# Altium schematic symbol library 自用.SchLib: 234 symbols (part 3 of 3)
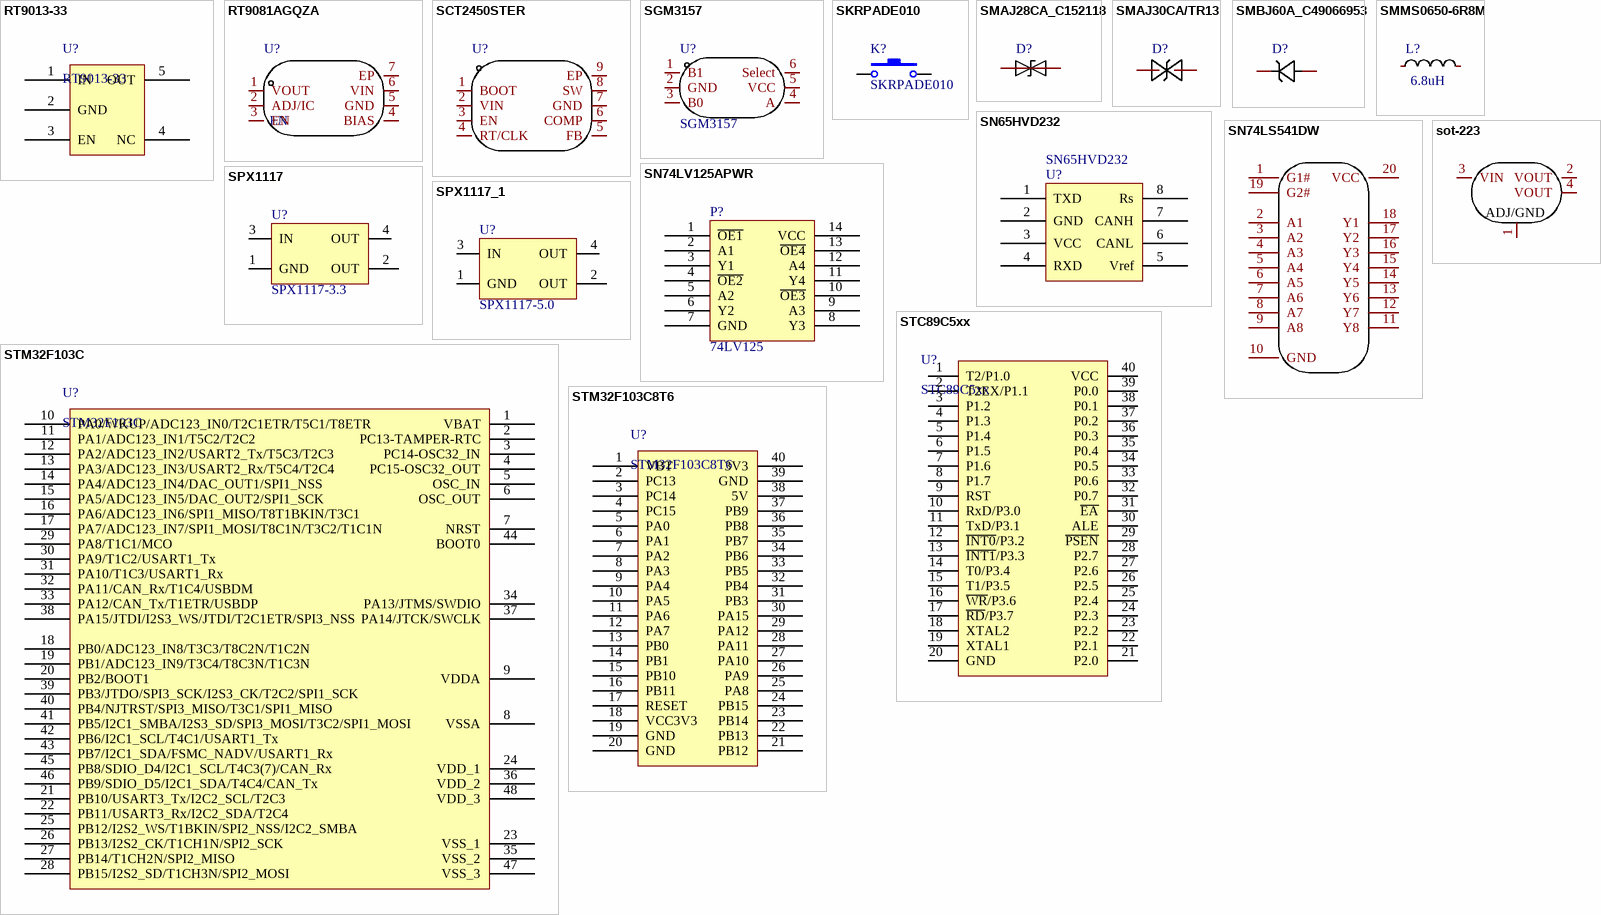
[diagram p10: symbols RT9013-33 to STM32F103C8T6]

## STM32F103C
designator U?
STM32单片机48引脚
footprint LQFP-48_M (Thin QFP, 48-Leads, Body 7x7mm, Pitch 0.5mm, IPC Low Density)
pins: 1 VBAT, 2 PC13-TAMPER-RTC, 3 PC14-OSC32_IN, 4 PC15-OSC32_OUT, 5 OSC_IN, 6 OSC_OUT, 7 NRST, 8 VSSA, 9 VDDA, 10 PA0/WKUP/ADC123_IN0/T2C1ETR/T5C1/T8ETR, 11 PA1/ADC123_IN1/T5C2/T2C2, 12 PA2/ADC123_IN2/USART2_Tx/T5C3/T2C3, 13 PA3/ADC123_IN3/USART2_Rx/T5C4/T2C4, 14 PA4/ADC123_IN4/DAC_OUT1/SPI1_NSS, 15 PA5/ADC123_IN5/DAC_OUT2/SPI1_SCK, 16 PA6/ADC123_IN6/SPI1_MISO/T8T1BKIN/T3C1, 17 PA7/ADC123_IN7/SPI1_MOSI/T8C1N/T3C2/T1C1N, 18 PB0/ADC123_IN8/T3C3/T8C2N/T1C2N, 19 PB1/ADC123_IN9/T3C4/T8C3N/T1C3N, 20 PB2/BOOT1, 21 PB10/USART3_Tx/I2C2_SCL/T2C3, 22 PB11/USART3_Rx/I2C2_SDA/T2C4, 23 VSS_1, 24 VDD_1, 25 PB12/I2S2_WS/T1BKIN/SPI2_NSS/I2C2_SMBA, 26 PB13/I2S2_CK/T1CH1N/SPI2_SCK, 27 PB14/T1CH2N/SPI2_MISO, 28 PB15/I2S2_SD/T1CH3N/SPI2_MOSI, 29 PA8/T1C1/MCO, 30 PA9/T1C2/USART1_Tx, 31 PA10/T1C3/USART1_Rx, 32 PA11/CAN_Rx/T1C4/USBDM, 33 PA12/CAN_Tx/T1ETR/USBDP, 34 PA13/JTMS/SWDIO, 35 VSS_2, 36 VDD_2, 37 PA14/JTCK/SWCLK, 38 PA15/JTDI/I2S3_WS/JTDI/T2C1ETR/SPI3_NSS, 39 PB3/JTDO/SPI3_SCK/I2S3_CK/T2C2/SPI1_SCK, 40 PB4/NJTRST/SPI3_MISO/T3C1/SPI1_MISO, 41 PB5/I2C1_SMBA/I2S3_SD/SPI3_MOSI/T3C2/SPI1_MOSI, 42 PB6/I2C1_SCL/T4C1/USART1_Tx, 43 PB7/I2C1_SDA/FSMC_NADV/USART1_Rx, 44 BOOT0, 45 PB8/SDIO_D4/I2C1_SCL/T4C3(7)/CAN_Rx, 46 PB9/SDIO_D5/I2C1_SDA/T4C4/CAN_Tx, 47 VSS_3, 48 VDD_3

## STM32F103C8T6
designator U?
购买的最小系统板
footprint stm32f103最小系统座
pins: 1 VBT, 2 PC13, 3 PC14, 4 PC15, 5 PA0, 6 PA1, 7 PA2, 8 PA3, 9 PA4, 10 PA5, 11 PA6, 12 PA7, 13 PB0, 14 PB1, 15 PB10, 16 PB11, 17 RESET, 18 VCC3V3, 19 GND, 20 GND, 21 PB12, 22 PB13, 23 PB14, 24 PB15, 25 PA8, 26 PA9, 27 PA10, 28 PA11, 29 PA12, 30 PA15, 31 PB3, 32 PB4, 33 PB5, 34 PB6, 35 PB7, 36 PB8, 37 PB9, 38 5V, 39 GND, 40 3V3

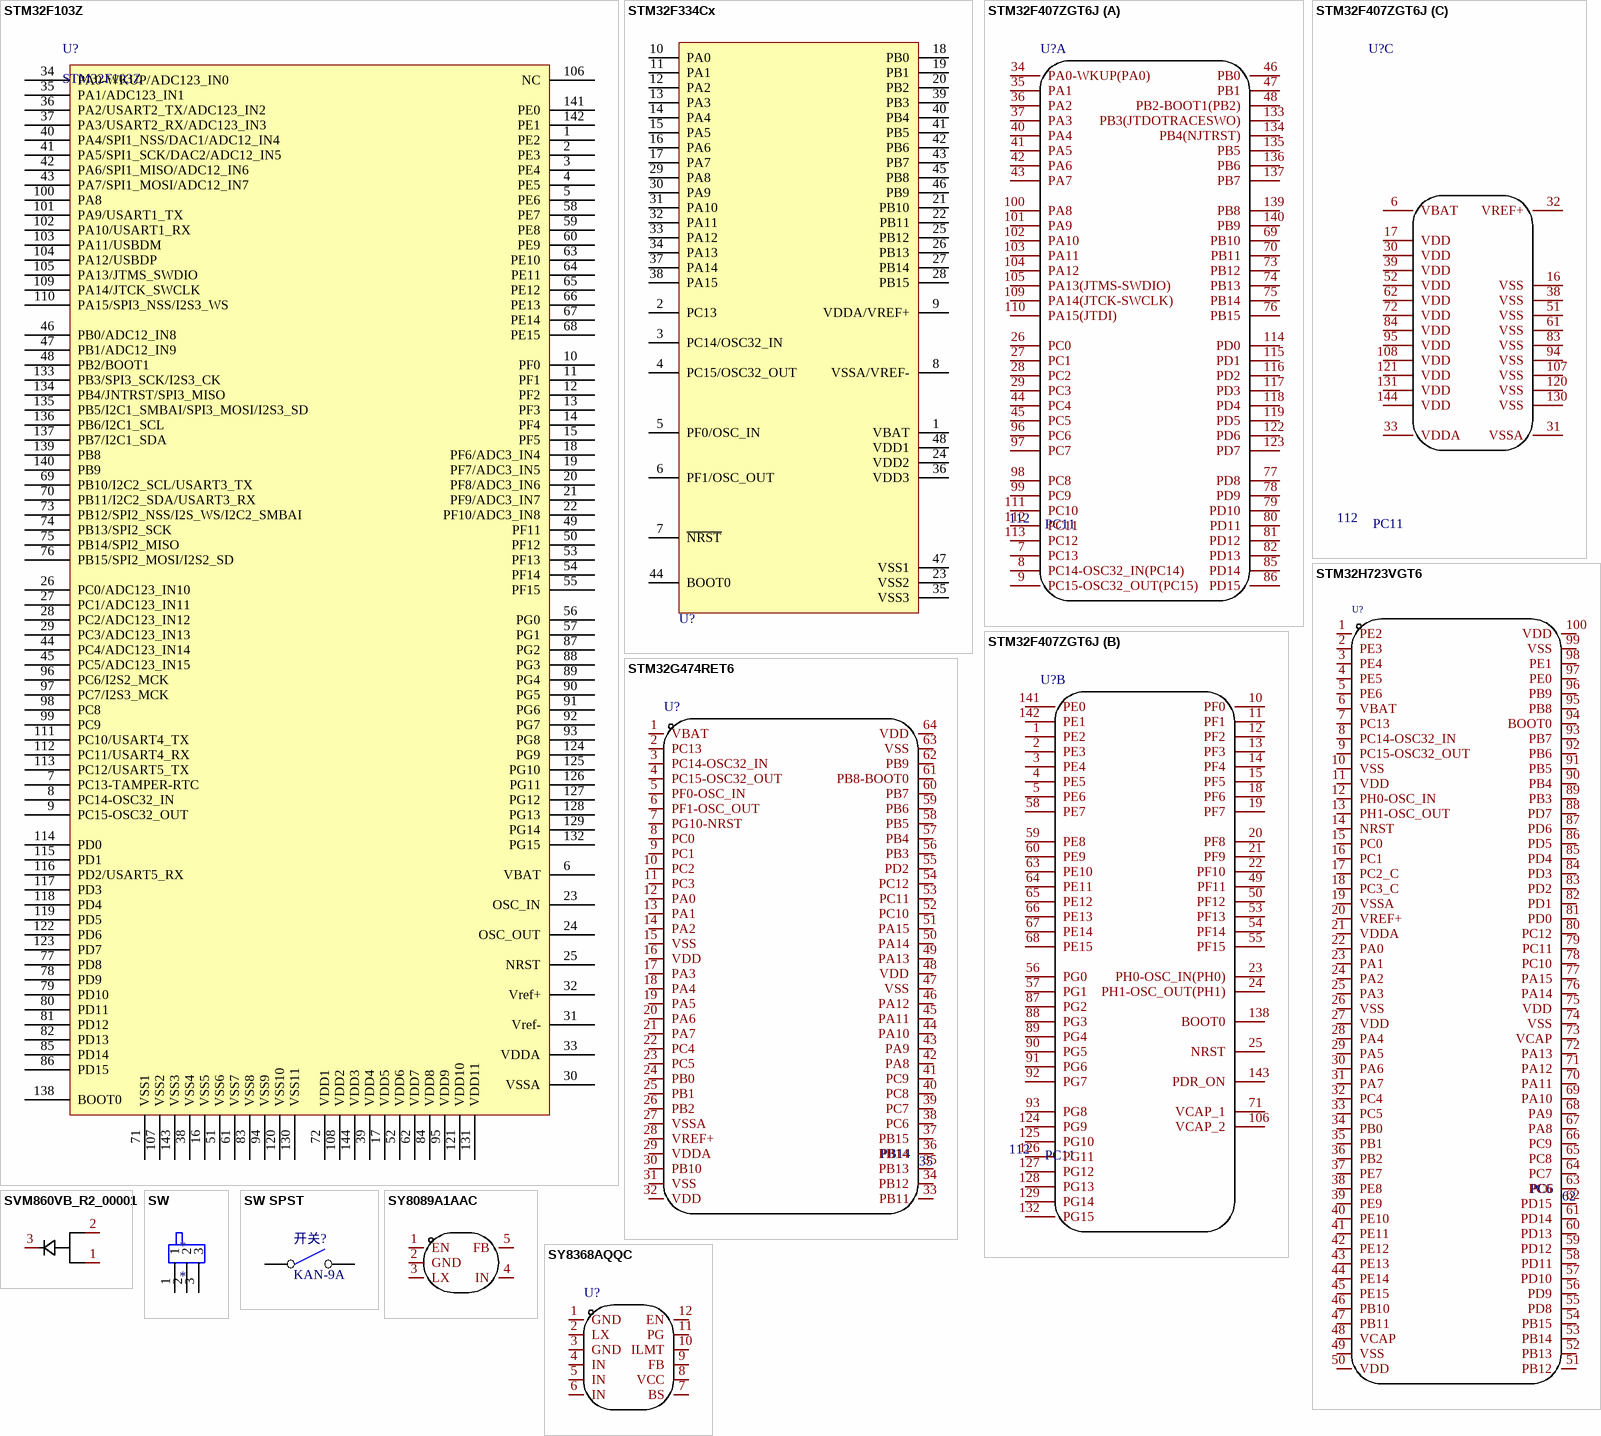
[diagram p6: symbols STM32F103Z to SY8368AQQC]

## STM32F103Z
designator U?
STM32单片机144引脚
footprint TQFP144_N (Thin QFP, 144-Leads, Body 20x20mm, Pitch 0.5mm, IPC Medium Density)
pins: 1 PE2, 2 PE3, 3 PE4, 4 PE5, 5 PE6, 6 VBAT, 7 PC13-TAMPER-RTC, 8 PC14-OSC32_IN, 9 PC15-OSC32_OUT, 10 PF0, 11 PF1, 12 PF2, 13 PF3, 14 PF4, 15 PF5, 16 VSS5, 17 VDD5, 18 PF6/ADC3_IN4, 19 PF7/ADC3_IN5, 20 PF8/ADC3_IN6, 21 PF9/ADC3_IN7, 22 PF10/ADC3_IN8, 23 OSC_IN, 24 OSC_OUT, 25 NRST, 26 PC0/ADC123_IN10, 27 PC1/ADC123_IN11, 28 PC2/ADC123_IN12, 29 PC3/ADC123_IN13, 30 VSSA, 31 Vref-, 32 Vref+, 33 VDDA, 34 PA0-WKUP/ADC123_IN0, 35 PA1/ADC123_IN1, 36 PA2/USART2_TX/ADC123_IN2, 37 PA3/USART2_RX/ADC123_IN3, 38 VSS4, 39 VDD4, 40 PA4/SPI1_NSS/DAC1/ADC12_IN4, 41 PA5/SPI1_SCK/DAC2/ADC12_IN5, 42 PA6/SPI1_MISO/ADC12_IN6, 43 PA7/SPI1_MOSI/ADC12_IN7, 44 PC4/ADC123_IN14, 45 PC5/ADC123_IN15, 46 PB0/ADC12_IN8, 47 PB1/ADC12_IN9, 48 PB2/BOOT1, 49 PF11, 50 PF12, 51 VSS6, 52 VDD6, 53 PF13, 54 PF14, 55 PF15, 56 PG0, 57 PG1, 58 PE7, 59 PE8, 60 PE9, 61 VSS7, 62 VDD7, 63 PE10, 64 PE11, 65 PE12, 66 PE13, 67 PE14, 68 PE15, 69 PB10/I2C2_SCL/USART3_TX, 70 PB11/I2C2_SDA/USART3_RX, 71 VSS1, 72 VDD1, 73 PB12/SPI2_NSS/I2S_WS/I2C2_SMBAI, 74 PB13/SPI2_SCK, 75 PB14/SPI2_MISO, 76 PB15/SPI2_MOSI/I2S2_SD, 77 PD8, 78 PD9, 79 PD10, 80 PD11, 81 PD12, 82 PD13, 83 VSS8, 84 VDD8, 85 PD14, 86 PD15, 87 PG2, 88 PG3, 89 PG4, 90 PG5, 91 PG6, 92 PG7, 93 PG8, 94 VSS9, 95 VDD9, 96 PC6/I2S2_MCK, 97 PC7/I2S3_MCK, 98 PC8, 99 PC9, 100 PA8, 101 PA9/USART1_TX, 102 PA10/USART1_RX, 103 PA11/USBDM, 104 PA12/USBDP, 105 PA13/JTMS_SWDIO, 106 NC, 107 VSS2, 108 VDD2, 109 PA14/JTCK_SWCLK, 110 PA15/SPI3_NSS/I2S3_WS, 111 PC10/USART4_TX, 112 PC11/USART4_RX, 113 PC12/USART5_TX, 114 PD0, 115 PD1, 116 PD2/USART5_RX, 117 PD3, 118 PD4, 119 PD5, 120 VSS10, 121 VDD10, 122 PD6, 123 PD7, 124 PG9, 125 PG10, 126 PG11, 127 PG12, 128 PG13, 129 PG14, 130 VSS11, 131 VDD11, 132 PG15, 133 PB3/SPI3_SCK/I2S3_CK, 134 PB4/JNTRST/SPI3_MISO, 135 PB5/I2C1_SMBAI/SPI3_MOSI/I2S3_SD, 136 PB6/I2C1_SCL, 137 PB7/I2C1_SDA, 138 BOOT0, 139 PB8, 140 PB9, 141 PE0, 142 PE1, 143 VSS3, 144 VDD3

## STM32F334Cx
designator U?, comment STM32F334CxT6  (value not drawn)
footprint LQFP_48 (Thin QFP, 48-Leads, Body 7x7mm, Pitch 0.5mm, IPC Medium Density)
pins: 1 VBAT, 2 PC13, 3 PC14/OSC32_IN, 4 PC15/OSC32_OUT, 5 PF0/OSC_IN, 6 PF1/OSC_OUT, 7 ~{NRST}, 8 VSSA/VREF-, 9 VDDA/VREF+, 10 PA0, 11 PA1, 12 PA2, 13 PA3, 14 PA4, 15 PA5, 16 PA6, 17 PA7, 18 PB0, 19 PB1, 20 PB2, 21 PB10, 22 PB11, 23 VSS2, 24 VDD2, 25 PB12, 26 PB13, 27 PB14, 28 PB15, 29 PA8, 30 PA9, 31 PA10, 32 PA11, 33 PA12, 34 PA13, 35 VSS3, 36 VDD3, 37 PA14, 38 PA15, 39 PB3, 40 PB4, 41 PB5, 42 PB6, 43 PB7, 44 BOOT0, 45 PB8, 46 PB9, 47 VSS1, 48 VDD1

## STM32F407ZGT6J
designator U?  NAME: PC11  NUMBER: 112  (hidden comment: STM32F407ZGT6J)
Manufacturer: ST(意法半导体); Add into BOM: yes; Symbol: STM32F407ZGT6J; Device: STM32F407ZGT6J; LCSC Part Name: 带DSP和FPU的高性能基础系列ARM Cortex-M4 MCU，具有1 MB Flash、168 MHz CPU、ART加速器、以太网和FSMC; Supplier Part: C2970023; Manufacturer Part: STM32F407ZGT6J; Supplier Footprint: LQFP-144(20x20); JLCPCB Part Class: Extended Part; Datasheet: https://atta.szlcsc.com/upload/public/pdf/source/20201130/C919362_39400D478C258148B3DF984CE4A4041A.pdf; Supplier: LCSC; Convert to PCB: yes
footprint LQFP-144_L20.0-W20.0-P0.50-LS22.0-BL
3D model LQFP-144_L20.0-W20.0-P0.50-LS22.0-BL
part A pins: 7 PC13, 8 PC14-OSC32_IN(PC14), 9 PC15-OSC32_OUT(PC15), 26 PC0, 27 PC1, 28 PC2, 29 PC3, 34 PA0-WKUP(PA0), 35 PA1, 36 PA2, 37 PA3, 40 PA4, 41 PA5, 42 PA6, 43 PA7, 44 PC4, 45 PC5, 46 PB0, 47 PB1, 48 PB2-BOOT1(PB2), 69 PB10, 70 PB11, 73 PB12, 74 PB13, 75 PB14, 76 PB15, 77 PD8, 78 PD9, 79 PD10, 80 PD11, 81 PD12, 82 PD13, 85 PD14, 86 PD15, 96 PC6, 97 PC7, 98 PC8, 99 PC9, 100 PA8, 101 PA9, 102 PA10, 103 PA11, 104 PA12, 105 PA13(JTMS-SWDIO), 109 PA14(JTCK-SWCLK), 110 PA15(JTDI), 111 PC10, 112 PC11, 113 PC12, 114 PD0, 115 PD1, 116 PD2, 117 PD3, 118 PD4, 119 PD5, 122 PD6, 123 PD7, 133 PB3(JTDOTRACESWO), 134 PB4(NJTRST), 135 PB5, 136 PB6, 137 PB7, 139 PB8, 140 PB9
part B pins: 1 PE2, 2 PE3, 3 PE4, 4 PE5, 5 PE6, 10 PF0, 11 PF1, 12 PF2, 13 PF3, 14 PF4, 15 PF5, 18 PF6, 19 PF7, 20 PF8, 21 PF9, 22 PF10, 23 PH0-OSC_IN(PH0), 24 PH1-OSC_OUT(PH1), 25 NRST, 49 PF11, 50 PF12, 53 PF13, 54 PF14, 55 PF15, 56 PG0, 57 PG1, 58 PE7, 59 PE8, 60 PE9, 63 PE10, 64 PE11, 65 PE12, 66 PE13, 67 PE14, 68 PE15, 71 VCAP_1, 87 PG2, 88 PG3, 89 PG4, 90 PG5, 91 PG6, 92 PG7, 93 PG8, 106 VCAP_2, 124 PG9, 125 PG10, 126 PG11, 127 PG12, 128 PG13, 129 PG14, 132 PG15, 138 BOOT0, 141 PE0, 142 PE1, 143 PDR_ON
part C pins: 6 VBAT, 16 VSS, 17 VDD, 30 VDD, 31 VSSA, 32 VREF+, 33 VDDA, 38 VSS, 39 VDD, 51 VSS, 52 VDD, 61 VSS, 62 VDD, 72 VDD, 83 VSS, 84 VDD, 94 VSS, 95 VDD, 107 VSS, 108 VDD, 120 VSS, 121 VDD, 130 VSS, 131 VDD, 144 VDD

## STM32G474RET6
designator U?  NAME: PB14  NUMBER: 35  (hidden comment: STM32G474RET6)
CPU内核:ARM-M4;CPU最大主频:170MHz;应用领域:-;; Manufacturer: ST(意法半导体); Add into BOM: yes; CPU Core: ARM-M4; CPU Maximum Speed: 170MHz; Program Storage Size: 512KB; Program Memory Type: FLASH; Number of I/O: 52; ADC (Bit): 12bit; Voltage - Supply: 1.71V~3.6V; Symbol: STM32G474RET6; Device: STM32G474RET6; LCSC Part Name: 带DSP和FPU的170MHz主流ARM Cortex-M4 MCU，具有512 KB Flash存储器、数学加速器、高分辨率定时器和高模拟电平集成; Supplier Part: C521608; Manufacturer Part: STM32G474RET6; Supplier Footprint: LQFP-64(10x10); JLCPCB Part Class: Extended Part; Datasheet: https://item.szlcsc.com/datasheet/STM32G474RET6/538858.html; Supplier: LCSC; Convert to PCB: yes; DAC (Bit): 12bit; Applications: -
footprint LQFP-64_L10.0-W10.0-P0.50-LS12.0-BL
3D model LQFP-64_L10.0-W10.0-H1.4-LS12.0-P0.50
pins: 1 VBAT, 2 PC13, 3 PC14-OSC32_IN, 4 PC15-OSC32_OUT, 5 PF0-OSC_IN, 6 PF1-OSC_OUT, 7 PG10-NRST, 8 PC0, 9 PC1, 10 PC2, 11 PC3, 12 PA0, 13 PA1, 14 PA2, 15 VSS, 16 VDD, 17 PA3, 18 PA4, 19 PA5, 20 PA6, 21 PA7, 22 PC4, 23 PC5, 24 PB0, 25 PB1, 26 PB2, 27 VSSA, 28 VREF+, 29 VDDA, 30 PB10, 31 VSS, 32 VDD, 33 PB11, 34 PB12, 35 PB13, 36 PB14, 37 PB15, 38 PC6, 39 PC7, 40 PC8, 41 PC9, 42 PA8, 43 PA9, 44 PA10, 45 PA11, 46 PA12, 47 VSS, 48 VDD, 49 PA13, 50 PA14, 51 PA15, 52 PC10, 53 PC11, 54 PC12, 55 PD2, 56 PB3, 57 PB4, 58 PB5, 59 PB6, 60 PB7, 61 PB8-BOOT0, 62 PB9, 63 VSS, 64 VDD

## STM32H723VGT6
designator U?  NAME: PC6  NUMBER: 62  (hidden comment: STM32H723VGT6)
应用领域:-;CPU内核:ARM-M系列;CPU最大主频:550MHz;工作电压范围:1.71V~3.6V;程序存储容量:1MB;程序存储器类型:FLASH;RAM总容量:564KB;GPIO端口数量:80;; Manufacturer: ST(意法半导体); Add into BOM: yes; CPU Maximum Speed: 550MHz; Program Storage Size: 1MB; Program Memory Type: FLASH; RAM Size: 564KB; GPIO Ports Number: 80; ADC (Bit): 16bit; DAC (Bit): 12bit; Universal Serial Bus: 有; Peripheral/Function: DMA；LCD/LED驱动; Symbol: STM32H723VGT6; Device: STM32H723VGT6; LCSC Part Name: STM32H723VGT6; Supplier Part: C730142; Manufacturer Part: STM32H723VGT6; Supplier Footprint: LQFP-100(14x14); Datasheet: https://atta.szlcsc.com/upload/public/pdf/source/20200902/C730141_32325B298F902737689CA9A88D6BD2F2.pdf; Supplier: LCSC; Convert to PCB: yes; Application Area: -; CPU Core: ARM-M系列; Operating Voltage Range: 1.71V~3.6V; EEPROM: -; PWM (Bit): -; 8Bit Timer: -; 16Bit Timer: -; 32Bit Timer: -; CAN: -; UART/USART: -; I2C: -; I2S: -; SPI: -; Internal Comparator: -; communication protocol: -; Watchdog: -; Real-Time Clock: -; Infrared Data Association: -; Low-Voltage Detect: -; CCP Capture/Compare: -; LCD Module: -; LED Module: -; Secure Digital Input and Output: 有; Direct Memory Access: -; Internal Oscillator: 有; Operating Temperature Range: -40~+85
footprint LQFP-100_L14.0-W14.0-P0.50-LS16.0-BL
3D model LQFP-100_L14.0-W14.0-H1.4-LS16.0-P0.50
pins: 1 PE2, 2 PE3, 3 PE4, 4 PE5, 5 PE6, 6 VBAT, 7 PC13, 8 PC14-OSC32_IN, 9 PC15-OSC32_OUT, 10 VSS, 11 VDD, 12 PH0-OSC_IN, 13 PH1-OSC_OUT, 14 NRST, 15 PC0, 16 PC1, 17 PC2_C, 18 PC3_C, 19 VSSA, 20 VREF+, 21 VDDA, 22 PA0, 23 PA1, 24 PA2, 25 PA3, 26 VSS, 27 VDD, 28 PA4, 29 PA5, 30 PA6, 31 PA7, 32 PC4, 33 PC5, 34 PB0, 35 PB1, 36 PB2, 37 PE7, 38 PE8, 39 PE9, 40 PE10, 41 PE11, 42 PE12, 43 PE13, 44 PE14, 45 PE15, 46 PB10, 47 PB11, 48 VCAP, 49 VSS, 50 VDD, 51 PB12, 52 PB13, 53 PB14, 54 PB15, 55 PD8, 56 PD9, 57 PD10, 58 PD11, 59 PD12, 60 PD13, 61 PD14, 62 PD15, 63 PC6, 64 PC7, 65 PC8, 66 PC9, 67 PA8, 68 PA9, 69 PA10, 70 PA11, 71 PA12, 72 PA13, 73 VCAP, 74 VSS, 75 VDD, 76 PA14, 77 PA15, 78 PC10, 79 PC11, 80 PC12, 81 PD0, 82 PD1, 83 PD2, 84 PD3, 85 PD4, 86 PD5, 87 PD6, 88 PD7, 89 PB3, 90 PB4, 91 PB5, 92 PB6, 93 PB7, 94 BOOT0, 95 PB8, 96 PB9, 97 PE0, 98 PE1, 99 VSS, 100 VDD

## SVM860VB_R2_00001
designator D??  (value not drawn)
Manufacturer: PANJIT(强茂); Add into BOM: yes; Reverse Voltage (Vr): 60V; Average Rectified Current (Io): 8A; Forward Voltage (Vf@If): 550mV@8A; Name: SVM860VB_R2_00001; Symbol: SVM860VB_R2_00001; Device: SVM860VB_R2_00001; LCSC Part Name: 60V 8A 550mV@8A; Supplier Part: C391734; Manufacturer Part: SVM860VB_R2_00001; Supplier Footprint: TO-277B; JLCPCB Part Class: Extended Part; Datasheet: https://atta.szlcsc.com/upload/public/pdf/source/20191009/16E1EB373CB74545A8BE07B5C7EDAC13_980FE1D79AA0762FF32B7C1F834FEE71.pdf; Supplier: LCSC; Convert to PCB: yes
3D model TO-277B_L6.1-W4.3-LS7.0-BR
pins: 1, 2, 3

## SW
designator *
footprint SW-TH_MK-12D18-G040
pins: 1, 2, 3

## SW SPST
designator 开关?, comment KAN-9A
footprint LQ_KAN-9A
pins: 1 COMMON, 2 NO

## SY8089A1AAC
designator U??  (value not drawn)
Manufacturer: 矽力杰silergy; Add into BOM: yes; Name: SY8089A1AAC; Symbol: SY8089A1AAC; Device: SY8089A1AAC; LCSC Part Name: SY8089A1AAC; Supplier Part: C479074; Manufacturer Part: SY8089A1AAC; Supplier Footprint: SOT-23-5; JLCPCB Part Class: Extended Part; Datasheet: https://atta.szlcsc.com/upload/public/pdf/source/20200117/C479074_09E605B8BDE11DB5A08573B7E6429A0D.pdf; Supplier: LCSC; Convert to PCB: yes
3D model SOT-23-5_L2.9-W1.6-H1.1-LS2.8-P0.95
footprint SOT-23-5_L2.9-W1.6-P0.95-LS2.8-BL
pins: 1 EN, 2 GND, 3 LX, 4 IN, 5 FB

## SY8368AQQC
designator U?  (value not drawn)
Manufacturer: silergy(矽力杰); Add into BOM: yes; Symbol: SY8368AQQC; Device: SY8368AQQC; LCSC Part Name: SY8368AQQC; Supplier Part: C207642; Manufacturer Part: SY8368AQQC; Supplier Footprint: QFN-12(3x3); JLCPCB Part Class: Extended Part; Datasheet: https://atta.szlcsc.com/upload/public/pdf/source/20230216/4232C0095630C5F8359F22493EDE685C.pdf; Supplier: LCSC; Convert to PCB: yes
footprint QFN-12_L3.0-W3.0-P0.45-TL-EP
3D model QFN-12_L3.0-W3.0-P0.45-TL-EP
pins: 1 GND, 2 LX, 3 GND, 4 IN, 5 IN, 6 IN, 7 BS, 8 VCC, 9 FB, 10 ILMT, 11 PG, 12 EN

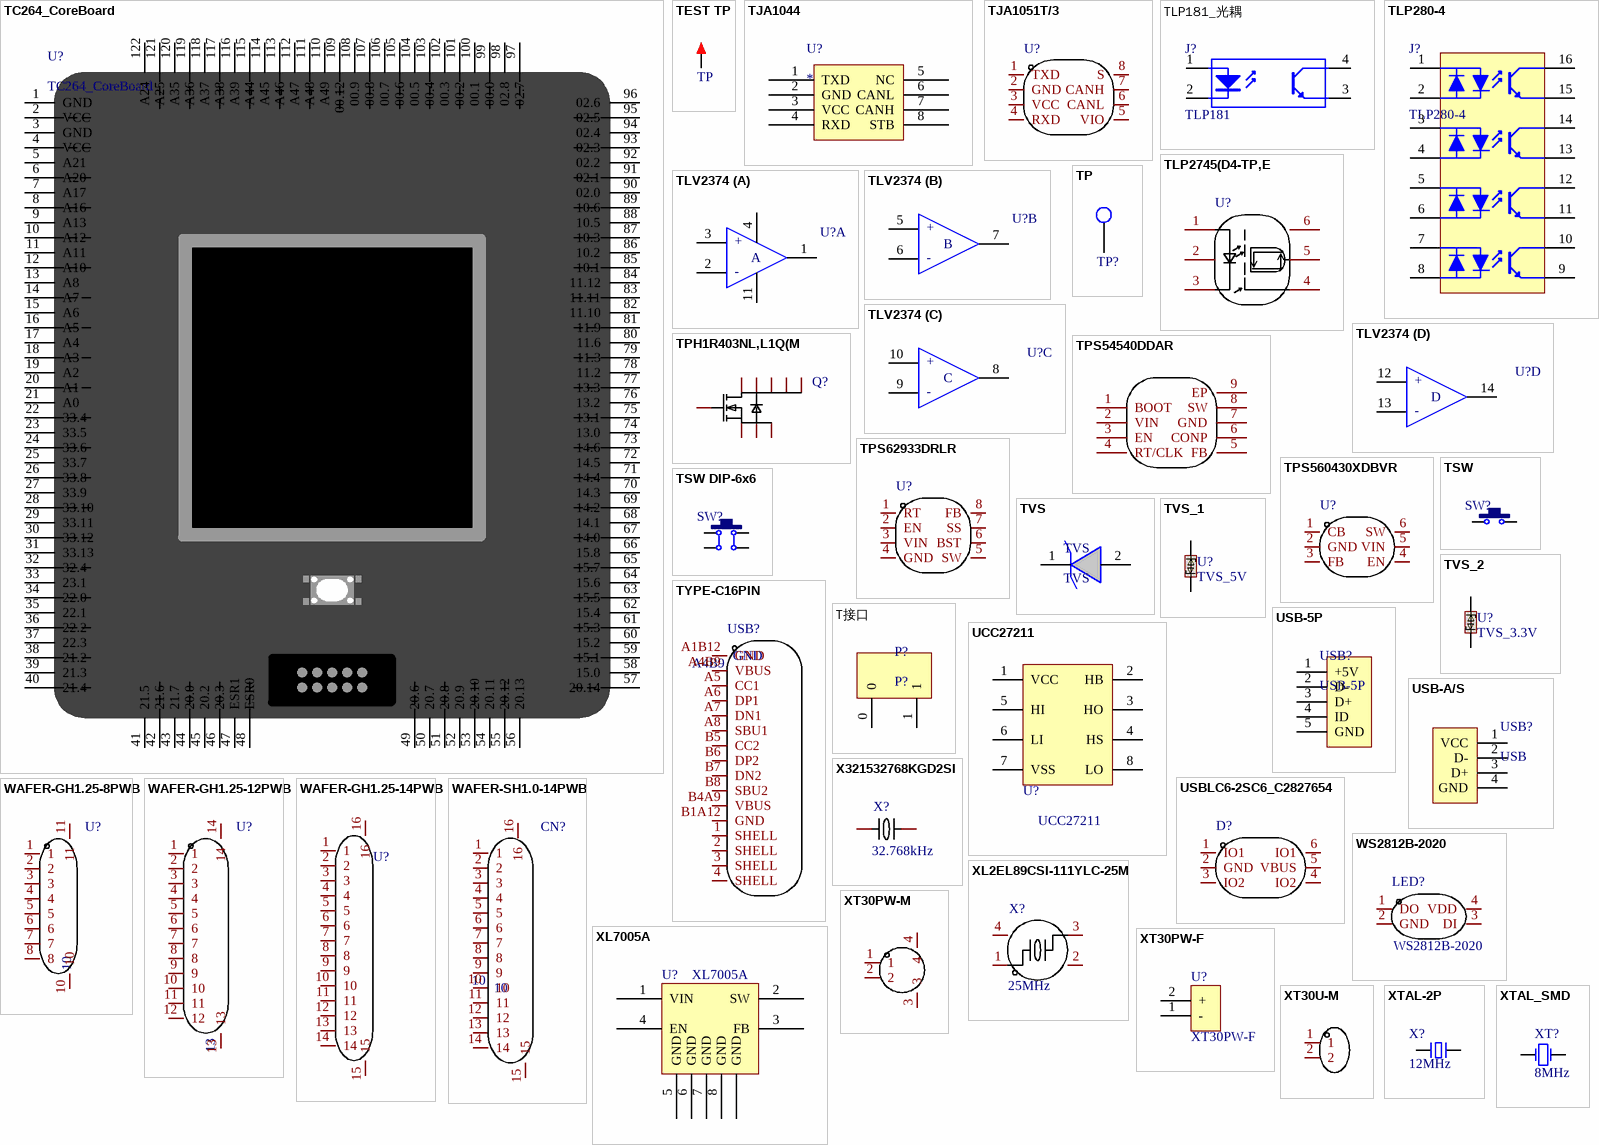
[diagram p7: symbols TC264_CoreBoard to XTAL_SMD]

## TC264_CoreBoard
designator U?
逐飞科技TC264核心板
footprint TC264_CoreBoard (逐飞科技TC264核心板)
pins: 1 GND, 2 VCC, 3 GND, 4 VCC, 5 A21, 6 A20, 7 A17, 8 A16, 9 A13, 10 A12, 11 A11, 12 A10, 13 A8, 14 A7, 15 A6, 16 A5, 17 A4, 18 A3, 19 A2, 20 A1, 21 A0, 22 33.4, 23 33.5, 24 33.6, 25 33.7, 26 33.8, 27 33.9, 28 33.10, 29 33.11, 30 33.12, 31 33.13, 32 32.4, 33 23.1, 34 22.0, 35 22.1, 36 22.2, 37 22.3, 38 21.2, 39 21.3, 40 21.4, 41 21.5, 42 21.6, 43 21.7, 44 20.0, 45 20.2, 46 20.3, 47 ESR1, 48 ESR0, 49 20.6, 50 20.7, 51 20.8, 52 20.9, 53 20.10, 54 20.11, 55 20.12, 56 20.13, 57 20.14, 58 15.0, 59 15.1, 60 15.2, 61 15.3, 62 15.4, 63 15.5, 64 15.6, 65 15.7, 66 15.8, 67 14.0, 68 14.1, 69 14.2, 70 14.3, 71 14.4, 72 14.5, 73 14.6, 74 13.0, 75 13.1, 76 13.2, 77 13.3, 78 11.2, 79 11.3, 80 11.6, 81 11.9, 82 11.10, 83 11.11, 84 11.12, 85 10.1, 86 10.2, 87 10.3, 88 10.5, 89 10.6, 90 02.0, 91 02.1, 92 02.2, 93 02.3, 94 02.4, 95 02.5, 96 02.6, 97 02.7, 98 02.8, 99 00.0, 100 00.1, 101 00.2, 102 00.3, 103 00.4, 104 00.5, 105 00.6, 106 00.7, 107 00.8, 108 00.9, 109 00.12, 110 A49, 111 A48, 112 A47, 113 A46, 114 A45, 115 A44, 116 A39, 117 A38, 118 A37, 119 A36, 120 A35, 121 A25, 122 A24

## TEST TP
designator ADC ILOW??, comment TP
测试环; 联系卖家，免费查找封装: 唯一出售店铺网址https://shop463601444.taobao.com; BOM名称: 测试环
footprint TEST_1.4TP (测试环)
footprint TEST TP1.4_R (红色，测试环)
footprint TEST TP1.4_G (绿色，测试环)
footprint TEST TP1.4_W (白色，测试环)
footprint TEST TP1.4_Y (黄色，测试环)
footprint TEST TP1.4_BK (黑色，测试环)
pins: 1

## TJA1044
designator U?
CAN线收发芯片
footprint SOP8 (（蒜米工坊）)
pins: 1 TXD, 2 GND, 3 VCC, 4 RXD, 5 NC, 6 CANL, 7 CANH, 8 STB

## TJA1051T/3
designator U?  (value not drawn)
Manufacturer: Tokmas(托克马斯); Add into BOM: yes; Symbol: TJA1051T/3; Device: TJA1051T/3; LCSC Part Name: CAN芯片; Supplier Part: C5342108; Manufacturer Part: TJA1051T/3; Supplier Footprint: SOP-8; JLCPCB Part Class: Extended Part; Datasheet: https://atta.szlcsc.com/upload/public/pdf/source/20221230/A2F88B671123D34174A4F40D8F54A86B.pdf; Supplier: LCSC; Convert to PCB: yes
footprint SOP-8_L4.9-W3.9-P1.27-LS6.0-BL-1
3D model SOP-8_L4.9-W3.9-P1.27-LS6.0-BL-1
pins: 1 TXD, 2 GND, 3 VCC, 4 RXD, 5 VIO, 6 CANL, 7 CANH, 8 S

## TLP181_光耦
designator J?, comment TLP181
光耦; 版权归属: 源创客; BOM名称: 光耦; 学习资源: www.ooocke.com
footprint SOP4_M (4.4*6.8*2.1mm（长宽高）)
pins: 1 A "Anode", 2 K "Cathode", 3 E "Emitter", 4 C "Collector"

## TLP280-4
designator J?
4组光耦; 版权归属: 源创客; BOM名称: 4组光耦; 学习资源: www.ooocke.com
footprint SOP16_M (10.3*6.2*1.8mm（长宽高）)
pins: 1 A "Anode", 2 K "Cathode", 3 E "Emitter", 4 C "Collector", 5, 6, 7, 8, 9, 10, 11, 12, 13, 14, 15, 16

## TLP2745(D4-TP,E
designator U?  (value not drawn)
输入类型:DC;工作电压:4.5V~30V;数据速率:-;; Manufacturer: TOSHIBA(东芝); Add into BOM: yes; Input Type: DC; Isolation Voltage(Vrms): 5kV; Number of Channels: 1; Low level Delay Time: 120ns; Input threshold current: 1.6mA; power dissipation: 100mW; Symbol: TLP2745(D4-TP,E; Device: TLP2745(D4-TP,E; LCSC Part Name: TLP2745(D4-TP,E; Supplier Part: C5125644; Manufacturer Part: TLP2745(D4-TP,E; Supplier Footprint: SO-6; JLCPCB Part Class: Extended Part; Datasheet: https://atta.szlcsc.com/upload/public/pdf/source/20220810/287706C7D49FFC50FE62ABD19CF5C977.pdf; Supplier: LCSC; Convert to PCB: yes; Voltage - Supply: 4.5V~30V; Data Rate: -; Operating Temperature: -40~+110; High level Delay Time: 120ns
footprint SOP-6_L7.5-W3.8-P1.27-LS10.2-BL
3D model SOP-6_L3.8-W7.5-H2.1-LS10-P1.27
pins: 1 Anode, 2 N.C., 3 Cathode, 4 GND, 5 VO, 6 VCC

## TLV2374
designator U?  (value not drawn)
footprint SOP-14
part A pins: 1 1OUT, 2 1IN-, 3 1IN+, 4 VCC, 11 GND
part B pins: 5 2IN+, 6 2IN-, 7 2OUT
part C pins: 8 3OUT, 9 3IN-, 10 3IN+
part D pins: 12 4IN+, 13 4IN-, 14 4OUT
part A text: +; A; -
part B text: +; B; -
part C text: +; C; -
part D text: +; D; -

## TP
designator TP?, comment ??  (value not drawn)
footprint TP
footprint test_pad
pins: 1

## TPH1R403NL,L1Q(M
designator Q?  (value not drawn)
Manufacturer: TOSHIBA(东芝); Add into BOM: yes; Symbol: TPH1R403NL,L1Q(M; Device: TPH1R403NL,L1Q(M; LCSC Part Name: TPH1R403NL,L1Q(M; Supplier Part: C2940403; Manufacturer Part: TPH1R403NL,L1Q(M; Supplier Footprint: SOP-8; Datasheet: https://atta.szlcsc.com/upload/public/pdf/source/20220830/C277A7BCA37DB7348B2C95BA2E6DA6BE.pdf; Supplier: LCSC; Convert to PCB: yes
footprint DSOP-8_L5.0-W5.0-P1.27-LS6.0-BL-EP
3D model DSOP-8_L5.0-W5.0-H0.7-LS6.0-P1.27
pins: 1 S, 2 S, 3 S, 4 G, 5 D, 6 D, 7 D, 8 D, 9 D

## TPS54540DDAR
designator U??  (value not drawn)
Manufacturer: TI(德州仪器); Add into BOM: yes; Function: 降压型; Name: TPS54540DDAR; Symbol: TPS54540DDAR; Device: TPS54540DDAR; LCSC Part Name: 降压型; Supplier Part: C95286; Manufacturer Part: TPS54540DDAR; Supplier Footprint: SOIC-8_EP_150mil; JLCPCB Part Class: Extended Part; Datasheet: https://atta.szlcsc.com/upload/public/pdf/source/20170810/C95286_1502335415598880010.pdf; Supplier: LCSC; Convert to PCB: yes; Synchronous Rectification: -; Number of Outputs: -; Topology: -; Input Voltage: -; Output Current (Max): -; Switching Frequency: -
3D model SOIC-8_L4.9-W3.9-H1.7-LS6.0-P1.27
pins: 1 BOOT, 2 VIN, 3 EN, 4 RT/CLK, 5 FB, 6 CONP, 7 GND, 8 SW, 9 EP

## TPS62933DRLR
designator U?  (value not drawn)
功能类型:降压型;输出类型:可调;输入电压:3.8V~30V;输出电压:800mV~22V;输出电流:3A;; Manufacturer: TI(德州仪器); Add into BOM: yes; Function: 降压型; Output Type: 可调; Output Current: 3A; Switching Frequency: 2.2MHz; Synchronous Rectification: 是; Number of Outputs: 1; Topology: 降压式; Switch tube (built-in/external): 内置; Symbol: TPS62933DRLR; Device: TPS62933DRLR; LCSC Part Name: TPS62933DRLR; Supplier Part: C3200405; Manufacturer Part: TPS62933DRLR; Supplier Footprint: SOT-583; JLCPCB Part Class: Extended Part; Datasheet: https://www.ti.com/cn/lit/gpn/tps62933f; Supplier: LCSC; Convert to PCB: yes; Input Voltage: 3.8V~30V; Output Voltage: 800mV~22V; Operating Temperature: -40~+150@(TJ)
footprint SOT-583-8_L2.1-W1.2-P0.50-LS1.6-BR
3D model SOT-583-8_L2.1-W1.2-P0.50-LS1.6-BR
pins: 1 RT, 2 EN, 3 VIN, 4 GND, 5 SW, 6 BST, 7 SS, 8 FB

## TPS560430XDBVR
designator U?  (value not drawn)
功能类型:降压型;工作电压:4V~36V;输出电压:-;输出电流:600mA;输出类型:可调;; Manufacturer: TI(德州仪器); Add into BOM: yes; Function: 降压型; Voltage - Supply: 4V~36V; Output Current: 600mA; Frequency - Switching: 1.1MHz; Synchronous Rectifier: 是; Number of Outputs: 1; Topology: 降压式; Quiescent Current: 80uA; Switch tube (built-in/external): 内置; Output Type: 可调; Symbol: TPS560430XDBVR; Device: TPS560430XDBVR; LCSC Part Name: 4V 至 36V、600mA 同步降压转换器; Supplier Part: C524782; Manufacturer Part: TPS560430XDBVR; Supplier Footprint: SOT-23-6; JLCPCB Part Class: Extended Part; Datasheet: https://www.ti.com/cn/lit/gpn/tps560430; Supplier: LCSC; Convert to PCB: yes; Output Voltage: -; Operating Temperature: -40~+125@(TJ)
footprint SOT-23-6_L2.9-W1.6-P0.95-LS2.8-BL
3D model SOT-23-6_L2.9-W1.6-H1.5-LS2.8-P0.95
pins: 1 CB, 2 GND, 3 FB, 4 EN, 5 VIN, 6 SW

## TSW
designator SW?, comment 6x6x5  (value not drawn)
轻触开关; BOM名称: 直插6x6轻触开关; 版权归属: 源创客; 学习资源: www.ooocke.com
footprint TSW DIP-6*6*5 (6*6*5mm)
footprint TSW DIP-3*6*4.3 (3*6*4.3mm)
footprint TSW DIP-12*12*10 (12*12*10mm)
footprint TSW SMD-3*6*2.5 (3*6*2.5mm)
footprint TSW SMD-4*4*1.5 (轻触开关，长宽高：4*4*1.5mm)
footprint TSW SMD-6*6*5 (6*6*5mm)
footprint TSW SMD-12*12*10 (12*12*10mm)
pins: 1, 2

## TSW DIP-6x6
designator SW?, comment 6x6x5  (value not drawn)
轻触开关; BOM名称: 直插6x6轻触开关; 版权归属: 源创客; 学习资源: www.ooocke.com
footprint TSW DIP-6*6*5 (6*6*5mm)
footprint TSW DIP-3*6*4.3 (3*6*4.3mm)
footprint TSW DIP-12*12*10 (12*12*10mm)
footprint TSW SMD-3*6*2.5 (3*6*2.5mm)
footprint TSW SMD-4*4*1.5 (轻触开关，长宽高：4*4*1.5mm)
footprint TSW SMD-6*6*5 (6*6*5mm)
footprint TSW SMD-12*12*10 (12*12*10mm)
pins: 1, 2, 3, 4

## TVS
designator TVS
footprint SMB_L4.5-W3.6-LS5.4-RD
pins: 1 -, 2 +

## TVS_1
designator U?, comment TVS_5V
footprint DO-214AC (JEDEC DO214 variation AC. SMA)
footprint SOD323 (SOD-323; 2 Leads; Body 1.8 x 1.35 mm, (LxW))
footprint DO-214AC (JEDEC DO214 variation AC. SMA)
pins: 1, 2

## TVS_2
designator U?, comment TVS_3.3V
footprint DO-214AC (JEDEC DO214 variation AC. SMA)
footprint SOD323 (SOD-323; 2 Leads; Body 1.8 x 1.35 mm, (LxW))
footprint DO-214AC (JEDEC DO214 variation AC. SMA)
pins: 1, 2

## TYPE-C16PIN
designator USB?  NAME: GND  NUMBER: A4B9  (hidden comment: TYPE-C16PIN)
连接器类型:Type-C;标准:-;公母:母;端口数量:1;触点数量:16P;安装方式:卧贴;额定电流 - 电源:3A;工作温度范围:-40~+85;; Manufacturer: SHOU HAN(首韩); Add into BOM: yes; Connector Type: Type-C; Gender: 母; Number of Ports: 1; Number of Contacts: 16P; Current Rating - Power (Max): 3A; Symbol: TYPE-C16PIN; Device: TYPE-C16PIN; LCSC Part Name: Type-C 母 卧贴; Supplier Part: C393939; Manufacturer Part: TYPE-C16PIN; Supplier Footprint: SMD; JLCPCB Part Class: Extended Part; Datasheet: https://atta.szlcsc.com/upload/public/pdf/source/20190521/C393939_7B9043D4CF1026AF443AB60D91FBCD5C.pdf; Supplier: LCSC; Convert to PCB: yes; Standard: -; Mounting Style: 卧贴; Operating Temperature Range: -40~+85
footprint USB-C-SMD_TYPE-C16PIN
3D model USB-C-SMD_TYPE-C16PIN
pins: 1 SHELL, 2 SHELL, 3 SHELL, 4 SHELL, A1B12 GND, A4B9 VBUS, A5 CC1, A6 DP1, A7 DN1, A8 SBU1, B1A12 GND, B4A9 VBUS, B5 CC2, B6 DP2, B7 DN2, B8 SBU2

## T接口
designator P?, comment P?
footprint T接口
pins: 0, 1

## UCC27211
designator U?
Gate drive,MOSFET、IGBT drive
footprint SOP-8 - BIG (HX720D/XL7005)
pins: 1 VCC, 2 HB, 3 HO, 4 HS, 5 HI, 6 LI, 7 VSS, 8 LO

## USB-5P
designator USB?
微型USB母座; 版权归属: 源创客; BOM名称: 微型USB母座; 学习资源: www.ooocke.com
footprint USB-micro_A (micro型USB ，5.7*7.8*2.5mm)
pins: 1 +5V, 2 D-, 3 D+, 4 ID, 5 GND

## USB-A/S
designator USB?, comment USB
USB接口; BOM名称: USB-A型母接口; 版权归属: 源创客; 学习资源: www.ooocke.com
footprint USB-A/S_B (A型贴片母头，)
footprint USB-A/S_A (A型直插母头，)
footprint USB-B/S_A (b型USB 母座 16.3*13.7*11mm)
pins: 1 VCC, 2 D-, 3 D+, 4 GND

## USBLC6-2SC6_C2827654
designator D?  (value not drawn)
极性:-;反向截止电压(Vrwm):-;最大钳位电压:-;峰值脉冲电流(Ipp)@10/1000us:-;峰值脉冲功率(Ppp)@10/1000us:-;击穿电压:-;; Manufacturer: TECH PUBLIC(台舟); Add into BOM: yes; Type: ESD; Symbol: USBLC6-2SC6_C2827654; Device: USBLC6-2SC6_C2827654; LCSC Part Name: ESD，可防30kV静电; Supplier Part: C2827654; Manufacturer Part: USBLC6-2SC6; Supplier Footprint: SOT-23-6; Datasheet: https://atta.szlcsc.com/upload/public/pdf/source/20210810/FBD75DE717D6D97BAC6DD7F2B5C09DCD.pdf; Supplier: LCSC; Convert to PCB: yes; polarity: -; Reverse Stand-Off Voltage (Vrwm): -; Maximum Clamping Voltage: -; Peak Pulse Current (Ipp)@10/1000us: -; Peak Pulse Power Dissipation (Ppp)@10/1000us: -; Breakdown Voltage: -; Reverse Leakage Current (Ir): -; Operating Temperature: -
footprint SOT-23-6_L2.9-W1.6-P0.95-LS2.8-BL
3D model SOT-23-6_L2.9-W1.6-H1.5-LS2.8-P0.95
pins: 1 IO1, 2 GND, 3 IO2, 4 IO2, 5 VBUS, 6 IO1

## WAFER-GH1.25-8PWB
designator U?  NAME: 10  (hidden comment: WAFER-GH1.25-8PWB)
插针结构:1x8P;间距:1.25mm;安装方式:卧贴;参考系列:GH;总PIN数:8P;排数:1;每排PIN数:8;行距:-;额定电流:1A;触头材质:黄铜;触头镀层:锡;工作温度:-25~+85;; Manufacturer: XUNPU(讯普); Add into BOM: yes; Pins Structure: 1x8P; Pitch: 1.25mm; Reference Series: GH; Number of PINs Per Row: 8; Current Rating: 1A; Voltage Rating: 125V; Plastic Material: LCP; Supplementary Features: 辅助焊脚; Z-Height of the Board: 4.35mm; X-Length of Bottom Edge on Board (Spacing Line): 13.25mm; Y-Width of Bottom Edge on Board: 5mm; Symbol: WAFER-GH1.25-8PWB; Device: WAFER-GH1.25-8PWB; LCSC Part Name: 1x8P 间距:1.25mm 卧贴 系列:GH; Supplier Part: C3029383; Manufacturer Part: WAFER-GH1.25-8PWB; Supplier Footprint: SMD,P=1.25mm,卧贴; JLCPCB Part Class: Extended Part; Datasheet: https://item.szlcsc.com/datasheet/WAFER-GH1.25-8PWB/3561395.html; Supplier: LCSC; Convert to PCB: yes; Mounting Type: 卧贴; Number of Pins: 8P; Number of Rows: 1; Row Spacing: -; Contact Material: 黄铜; Contact Plating: 锡; Operating Temperature: -25~+85; Flame Retardant Rating: -; Color: 米色
footprint CONN-SMD_8P-P1.25_XUNPU-WAFER-GH1.25-8PWB
3D model CONN-SMD_8P-P1.25_XUNPU-WAFER-GH1.25-8PWB
pins: 1, 2, 3, 4, 5, 6, 7, 8, 10, 11

## WAFER-GH1.25-12PWB
designator U?  NUMBER: 13  (hidden comment: WAFER-GH1.25-12PWB)
插针结构:1x12P;间距:1.25mm;安装方式:卧贴;参考系列:GH;总PIN数:12P;排数:1;每排PIN数:12;行距:-;额定电流:1A;触头材质:黄铜;触头镀层:锡;工作温度:-25~+85;; Manufacturer: XUNPU(讯普); Add into BOM: yes; Pins Structure: 1x12P; Pitch: 1.25mm; Reference Series: GH; Number of PINs Per Row: 12; Current Rating: 1A; Voltage Rating: 125V; Plastic Material: LCP; Supplementary Features: 辅助焊脚; Z-Height of the Board: 4.35mm; X-Length of Bottom Edge on Board (Spacing Line): 18.25mm; Y-Width of Bottom Edge on Board: 5mm; Symbol: WAFER-GH1.25-12PWB; Device: WAFER-GH1.25-12PWB; LCSC Part Name: 1x12P 间距:1.25mm 卧贴 系列:GH; Supplier Part: C22370221; Manufacturer Part: WAFER-GH1.25-12PWB; Supplier Footprint: SMD,P=1.25mm,卧贴; JLCPCB Part Class: Extended Part; Datasheet: https://item.szlcsc.com/datasheet/WAFER-GH1.25-12PWB/23850674.html; Supplier: LCSC; Convert to PCB: yes; Mounting Type: 卧贴; Number of Pins: 12P; Number of Rows: 1; Row Spacing: -; Contact Material: 黄铜; Contact Plating: 锡; Operating Temperature: -25~+85; Flame Retardant Rating: -; Color: 米色
footprint CONN-SMD_12P-P1.25_BM10B-GHS-TBT-LF-SN
3D model CONN-SMD_12P-P1.25_BM10B-GHS-TBT-LF-SN
pins: 1, 2, 3, 4, 5, 6, 7, 8, 9, 10, 11, 12, 13, 14

## WAFER-GH1.25-14PWB
designator U?  (value not drawn)
插针结构:1x14P;间距:1.25mm;安装方式:卧贴;参考系列:GH;总PIN数:14P;排数:1;每排PIN数:14;行距:-;额定电流:1A;触头材质:黄铜;触头镀层:锡;工作温度:-25~+85;; Manufacturer: XUNPU(讯普); Add into BOM: yes; Pins Structure: 1x14P; Pitch: 1.25mm; Reference Series: GH; Number of PINs Per Row: 14; Current Rating: 1A; Voltage Rating: 125V; Plastic Material: LCP; Supplementary Features: 辅助焊脚; Z-Height of the Board: 4.35mm; X-Length of Bottom Edge on Board (Spacing Line): 20.75mm; Y-Width of Bottom Edge on Board: 5mm; Symbol: WAFER-GH1.25-14PWB; Device: WAFER-GH1.25-14PWB; LCSC Part Name: 1x14P 间距:1.25mm 卧贴 系列:GH; Supplier Part: C22370223; Manufacturer Part: WAFER-GH1.25-14PWB; Supplier Footprint: SMD,P=1.25mm,卧贴; JLCPCB Part Class: Extended Part; Datasheet: https://item.szlcsc.com/datasheet/WAFER-GH1.25-14PWB/23850676.html; Supplier: LCSC; Convert to PCB: yes; Mounting Type: 卧贴; Number of Pins: 14P; Number of Rows: 1; Row Spacing: -; Contact Material: 黄铜; Contact Plating: 锡; Operating Temperature: -25~+85; Flame Retardant Rating: -; Color: 米色
footprint CONN-SMD_14P-P1.25_KINGHELM_KH-A1252RS-14P
3D model CONN-SMD_14P-P1.25_KINGHELM_KH-A1252RS-14P
pins: 1, 2, 3, 4, 5, 6, 7, 8, 9, 10, 11, 12, 13, 14, 15, 16

## WAFER-SH1.0-14PWB
designator CN?  NUMBER: 10  (hidden comment: WAFER-SH1.0-14PWB)
插针结构:1x14P;间距:1mm;安装方式:卧贴;参考系列:SH;总PIN数:14P;排数:1;每排PIN数:14;行距:-;额定电流:1A;触头材质:黄铜;触头镀层:锡;工作温度:-40~+85;; Manufacturer: XUNPU(讯普); Add into BOM: yes; Pins Structure: 1x14P; Pitch: 1mm; Reference Series: SH; Number of PINs Per Row: 14; Current Rating: 1A; Voltage Rating: 50V; Plastic Material: LCP; Supplementary Features: 辅助焊脚; Z-Height of the Board: 3.15mm; X-Length of Bottom Edge on Board (Spacing Line): 16.35mm; Y-Width of Bottom Edge on Board: 4.3mm; Symbol: WAFER-SH1.0-14PWB; Device: WAFER-SH1.0-14PWB; LCSC Part Name: 1x14P 间距:1mm 卧贴 系列:SH; Supplier Part: C22370325; Manufacturer Part: WAFER-SH1.0-14PWB; Supplier Footprint: SMD,P=1mm,卧贴; JLCPCB Part Class: Extended Part; Datasheet: https://item.szlcsc.com/datasheet/WAFER-SH1.0-14PWB/23850778.html; Supplier: LCSC; Convert to PCB: yes; Mounting Type: 卧贴; Number of Pins: 14P; Number of Rows: 1; Row Spacing: -; Contact Material: 黄铜; Contact Plating: 锡; Operating Temperature: -40~+85; Flame Retardant Rating: -; Color: 米色; NAME: 10
footprint CONN-SMD_14P-P1.00_WAFER-SH1.0-14PWT-W1-P
3D model CONN-SMD_14P-P1.00_WAFER-SH1.0-14PWT-W1-P
pins: 1, 2, 3, 4, 5, 6, 7, 8, 9, 10, 11, 12, 13, 14, 15, 16

## WS2812B-2020
designator LED?
Manufacturer: worldsemi; Add into BOM: yes; Emitted Color: RGB三色; Dominant Wavelength: 470.4nm；622.5nm；515.6nm; Forward Current: 12mA; Symbol: WS2812B-2020; Device: WS2812B-2020; LCSC Part Name: RGB三色 470.4nm 515.6nm 622.5nm （注意防潮，请查阅规格书中对应具体内容）; Supplier Part: C965555; Manufacturer Part: WS2812B-2020; Supplier Footprint: SMD,2x2mm; JLCPCB Part Class: Extended Part; Datasheet: https://atta.szlcsc.com/upload/public/pdf/source/20201203/C965555_5C919C4B6231E6ADE06011FB0D94282B.pdf; Supplier: LCSC; Convert to PCB: yes; Diode Configuration: -; Lens Color: -; Peak Wavelength: -; Color Temperature: -; Power Dissipation: -; Viewing Angle: -; Mounting Sytle: -; Operating Temperature: -; Name: WS2812B-2020
footprint LED-SMD_4P-L2.0-W2.0-TL_WS2812B-2020
pins: 1 DO, 2 GND, 3 DI, 4 VDD

## X321532768KGD2SI
designator X?  value 32.768kHz  (hidden comment: X321532768KGD2SI)
频率:32.768kHz;负载电容:12.5pF;频率公差:±20ppm;; Manufacturer: YXC(扬兴晶振); Add into BOM: yes; Crystal Type: 贴片无源晶振; Load Capacitance: 12.5pF; Frequency Tolerance: ±20ppm; Symbol: X321532768KGD2SI; Device: X321532768KGD2SI; LCSC Part Name: 32.768kHz ±20ppm 12.5pF YST310S; Supplier Part: C620155; Manufacturer Part: X321532768KGD2SI; Supplier Footprint: SMD3215-2P; JLCPCB Part Class: Extended Part; Datasheet: https://atta.szlcsc.com/upload/public/pdf/source/20210329/C620155_E5A74FC0D27C5E9015A8D75DE9484FEA.pdf; Supplier: LCSC; Convert to PCB: yes; Operating Temperature: -40~+85
footprint OSC-SMD_L3.2-W1.5
3D model OSC-SMD_L3.2-W1.5-H0.8
pins: 1, 2

## XL2EL89CSI-111YLC-25M
designator X?  value 25MHz  (hidden comment: XL2EL89CSI-111YLC-25M)
频率:25MHz;负载电容:20pF;频率公差:±10ppm;; Manufacturer: YXC(扬兴晶振); Add into BOM: yes; Crystal Type: 贴片无源晶振; Load Capacitance: 20pF; Frequency Tolerance: ±10ppm; Symbol: XL2EL89CSI-111YLC-25M; Device: XL2EL89CSI-111YLC-25M; LCSC Part Name: 25MHz ±10ppm 20pF YSX321SL; Supplier Part: C5280577; Manufacturer Part: XL2EL89CSI-111YLC-25M; Supplier Footprint: SMD3225-4P; JLCPCB Part Class: Extended Part; Datasheet: https://atta.szlcsc.com/upload/public/pdf/source/20221123/8DAA01809C4E3F159850A71277C18D74.pdf; Supplier: LCSC; Convert to PCB: yes
footprint CRYSTAL-SMD_4P-L3.2-W2.5-BL
3D model OSC-SMD_4P-L3.2-W2.5-H1.0
pins: 1, 2 GND, 3, 4 GND

## XL7005A
designator U?
5-80v-buck
footprint SOP8-POWERPAD
footprint SOP-8-EX
pins: 1 VIN, 2 SW, 3 FB, 4 EN, 5 GND, 6 GND, 7 GND, 8 GND, 9 GND

## XT30PW-F
designator U?
footprint XT30PW-F
pins: 1 -, 2 +

## XT30PW-M
designator CN??  (value not drawn)
Manufacturer: AMASS(艾迈斯); Add into BOM: yes; Name: XT30PW-M; Symbol: XT30PW-M; Device: XT30PW-M; LCSC Part Name: XT30PW-M公头; Supplier Part: C431092; Manufacturer Part: XT30PW-M; Supplier Footprint: Through Hole; JLCPCB Part Class: Extended Part; Datasheet: https://atta.szlcsc.com/upload/public/pdf/source/20220222/6A9F22F7850E25B33E1BE430ADF8560B.pdf; Supplier: LCSC; Convert to PCB: yes
footprint XT30PW-M
pins: 1, 2, 3, 4

## XT30U-M
designator CN??  (value not drawn)
Manufacturer: AMASS(艾迈斯); Add into BOM: yes; Name: XT30U-M; Symbol: XT30U-M; Device: XT30U-M; LCSC Part Name: XT30U-M 公头; Supplier Part: C99101; Manufacturer Part: XT30U-M; Supplier Footprint: -; JLCPCB Part Class: Extended Part; Datasheet: https://atta.szlcsc.com/upload/public/pdf/source/20170606/1496716542582.pdf; Supplier: LCSC; Convert to PCB: yes
footprint CONN-TH_XT30U-M
3D model CONN-TH_XT30U-M
pins: 1, 2

## XTAL-2P
designator X?, comment 12MHz
2脚无源脚晶振; 版权归属: 源创客; BOM名称: 2脚无源脚晶振; 学习资源: www.ooocke.com
footprint OSC HC-49S
footprint OSC HC-49SMD
footprint OSC-3x8-WI-A (脚距：2mm)
pins: 1, 2

## XTAL_SMD
designator XT?  value 8MHz  (hidden comment: XTAL_SMD)
Crystal Oscillator; Published: 8-Jun-2000; LatestRevisionDate: 17-Jul-2002; LatestRevisionNote: Re-released for DXP Platform.; PackageReference: R38; Publisher: Altium Limited; PackageDescription: Crystal, Thru-Hole; 2 Leads; Body 3.1 x 8.2 mm (Dia.xH)
footprint XTAL_SMD (SMD Crystal HC49/US-SM package)
footprint XTAL_5032 (Molded Capacitor, 2-Leads, Body 5.0x3.2mm, IPC Medium Density)
pins: 1 OSC1, 2 OSC2

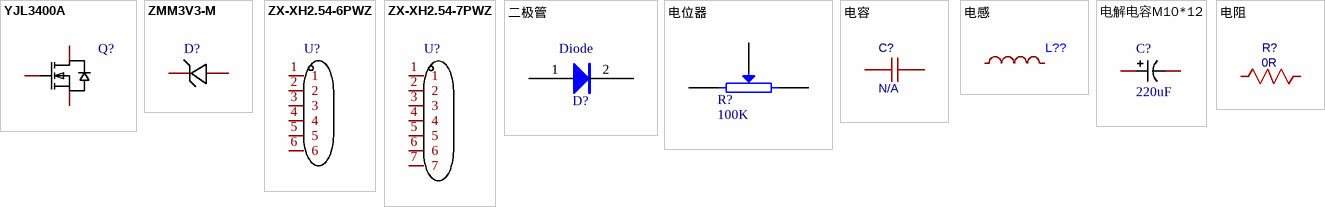
[diagram p8: symbols YJL3400A to 电阻]

## YJL3400A
designator Q?  (value not drawn)
类型:N沟道;漏源电压(Vdss):30V;连续漏极电流(Id):5.6A;功率(Pd):1.2W;导通电阻(RDS(on)@Vgs,Id):27mΩ@10V,5.6A;阈值电压(Vgs(th)@Id):1.5V@250uA;; Manufacturer: YANGJIE(扬杰); Add into BOM: yes; Type: N沟道; Drain Source Voltage (Vdss): 30V; Power Dissipation (Pd): 1.2W; Total Gate Charge (Qg@Vgs): 17.25nC@10V; Input Capacitance (Ciss@Vds): 630pF@15V; Symbol: YJL3400A; Device: YJL3400A; LCSC Part Name: N沟道 耐压:30V 电流:5.6A; Supplier Part: C699302; Manufacturer Part: YJL3400A; Supplier Footprint: SOT-23(TO-236); JLCPCB Part Class: Extended Part; Datasheet: https://atta.szlcsc.com/upload/public/pdf/source/20200709/C699302_C2B88B69139871D2E58BC98BB548FF51.pdf; Supplier: LCSC; Convert to PCB: yes; Continuous Drain Current (Id): 5.6A; Drain Source On Resistance (RDS(on)@Vgs,Id): 27mΩ@10V,5.6A; Gate Threshold Voltage (Vgs(th)@Id): 1.5V@250uA; Operating Temperature: -55~+150@(Tj)
footprint SOT-23-3_L2.9-W1.3-P1.90-LS2.4-BR
3D model SOT-23-3P_L2.9-W1.3-H1.0-LS2.4-P0.95
pins: 1 G, 2 S, 3 D

## ZMM3V3-M
designator D?  (value not drawn)
二极管配置:独立式;稳压值(标称值):3.3V;稳压值(范围):3.1V~3.5V;精度:-;功率:500mW;反向电流(Ir):2uA@1V;阻抗(Zzt):85Ω;; Manufacturer: ST(先科); Symbol: ZMM3V3; Add into BOM: yes; Diode Configuration: 独立式; Zener Voltage (Nom): 3.3V; Power Dissipation: 500mW; Reverse Leakage Current (Ir): 2uA@1V; Zener Impedance (Zzt): 85Ω; Device: ZMM3V3-M; LCSC Part Name: 3.3V 500mW; Supplier Part: C8056; Manufacturer Part: ZMM3V3-M; Supplier Footprint: LL-34; JLCPCB Part Class: Basic Part; Datasheet: https://atta.szlcsc.com/upload/public/pdf/source/20120512/1457706507365.pdf; Supplier: LCSC; Convert to PCB: yes; Zener Voltage (Range): 3.1V~3.5V; Tolerance: -
footprint LL-34_L3.5-W1.5-RD
3D model LL-34_L3.5-W1.5
pins: 1 C, 2 A

## ZX-XH2.54-6PWZ
designator U?  (value not drawn)
插针结构:1x6P;间距:2.5mm;安装方式:弯插;参考系列:XH;总PIN数:6P;排数:1;每排PIN数:6;行距:-;额定电流:3A;触头材质:黄铜;触头镀层:锡;工作温度:-25~+85;; Manufacturer: Megastar(兆星); Add into BOM: yes; Pins Structure: 1x6P; Pitch: 2.5mm; Reference Series: XH; Number of PINs Per Row: 6; Current Rating: 3A; Voltage Rating: 250V; Plastic Material: PA66; Flame Retardant Rating: UL94V-0; Z-Height of the Board: 5.9mm; X-Length of Bottom Edge on Board (Spacing Line): 17.5mm; Y-Width of Bottom Edge on Board: 7.32mm; Symbol: ZX-XH2.54-6PWZ; Device: ZX-XH2.54-6PWZ; LCSC Part Name: 1x6P 间距:2.5mm 弯插 系列:XH; Supplier Part: C7429645; Manufacturer Part: ZX-XH2.54-6PWZ; Supplier Footprint: 弯插,P=2.5mm; JLCPCB Part Class: Extended Part; Datasheet: https://item.szlcsc.com/datasheet/ZX-XH2.54-6PWZ/8427562.html; Supplier: LCSC; Convert to PCB: yes; Mounting Type: 弯插; Number of Pins: 6P; Number of Rows: 1; Row Spacing: -; Contact Material: 黄铜; Contact Plating: 锡; Operating Temperature: -25~+85; Supplementary Features: -; Color: 白色
footprint CONN-TH_6P-P2.50_ZX-XH2.54-6PWZ
3D model CONN-TH_6P-P2.50_ZX-XH2.54-6PWZ
pins: 1, 2, 3, 4, 5, 6

## ZX-XH2.54-7PWZ
designator U?  (value not drawn)
插针结构:1x7P;间距:2.5mm;安装方式:弯插;参考系列:XH;总PIN数:7P;排数:1;每排PIN数:7;行距:-;额定电流:3A;触头材质:黄铜;触头镀层:锡;工作温度:-25~+85;; Manufacturer: Megastar(兆星); Add into BOM: yes; Pins Structure: 1x7P; Pitch: 2.5mm; Reference Series: XH; Number of PINs Per Row: 7; Current Rating: 3A; Voltage Rating: 250V; Plastic Material: PA66; Flame Retardant Rating: UL94V-0; Z-Height of the Board: 5.9mm; X-Length of Bottom Edge on Board (Spacing Line): 20mm; Y-Width of Bottom Edge on Board: 7.32mm; Symbol: ZX-XH2.54-7PWZ; Device: ZX-XH2.54-7PWZ; LCSC Part Name: 1x7P 间距:2.5mm 弯插 系列:XH; Supplier Part: C7429646; Manufacturer Part: ZX-XH2.54-7PWZ; Supplier Footprint: 弯插,P=2.5mm; JLCPCB Part Class: Extended Part; Datasheet: https://item.szlcsc.com/datasheet/ZX-XH2.54-7PWZ/8427563.html; Supplier: LCSC; Convert to PCB: yes; Mounting Type: 弯插; Number of Pins: 7P; Number of Rows: 1; Row Spacing: -; Contact Material: 黄铜; Contact Plating: 锡; Operating Temperature: -25~+85; Supplementary Features: -; Color: 白色
footprint CONN-TH_7P-P2.50_ZX-XH2.54-7PWZ
3D model CONN-TH_7P-P2.50_ZX-XH2.54-7PWZ
pins: 1, 2, 3, 4, 5, 6, 7

## 二极管
designator D?, comment Diode
Diode 1N series
footprint SMA (4.5x2.6*2.2mm（长宽高，不包括引脚）)
footprint SMB (4.7*3.9*2.2mm(长宽高，不包括引脚）)
footprint SMC (7.1x5.9*2.3mm（长宽高，不包括引脚）)
footprint DO-213AB (2.5*5.6mm(直径，脚距）)
footprint SOD-123 (2.7x1.6X1.1mm（长宽高，不包括引脚）)
pins: 1, 2
2 alternate drawings of the same symbol

## 电位器
designator R?, comment 100K
Potentiometer
footprint 3296W (Precise Multi-Winding Adjustable Resistor)
footprint 3362P
footprint WH148-1-G15 (单联电位器，脚距：5mm，柄长：15mm)
pins: 1, 2 W, 3

## 电容
designator C?, comment N/A
nameAlias: Value(F); Contributor: LCEDA_Lib; spicePre: C; spiceSymbolName: C_1206_US
footprint C1206
pins: 1, 2

## 电感
designator L??
footprint IND-SMD_L7.8-W7.0_MAPM0630F
pins: 1, 2

## 电解电容M10*12
designator C?, comment value 220uF  (hidden comment: PA50V220M10x12)
容值:220uF;精度:±20%;额定电压:50V;纹波电流:3.5A@100kHz;等效串联电阻(ESR):20mΩ@100kHz;类型:聚合物;; Manufacturer: JIERR(捷而瑞); Add into BOM: yes; Tolerance: ±20%; Voltage Rating: 50V; Type: 聚合物; Lifetime: 2000hrs@105; Symbol: PA50V220M10X12; Device: PA50V220M10x12; LCSC Part Name: 220uF ±20% 50V; Supplier Part: C46550451; Manufacturer Part: PA50V220M10x12; Supplier Footprint: 插件,D10xL12.5mm; JLCPCB Part Class: Extended Part; Datasheet: https://item.szlcsc.com/datasheet/PA50V220M10x12/48680145.html; Supplier: LCSC; Convert to PCB: yes; Ripple Current: 3.5A@100kHz; Equivalent Series Resistance(ESR): 20mΩ@100kHz; Diameter: 10mm; Height - Seated (Max): 12.5mm; Operating Temperature: -55~+105
footprint CAP-TH_BD10.0-P5.00-D0.6-FD_2
3D model CAP-TH_BD10.0-P5.00-D0.6-FD_2
pins: 1, 2

## 电阻
designator R?, comment 0R
nameAlias: Value(Ω); Contributor: LCEDA_Lib; spicePre: R; spiceSymbolName: R_0603_US
footprint R0603
footprint R0402
pins: 1, 2